# Altium footprint library QUTMS_PCBLibrary.PcbLib: 22 footprints (part 2 of 2)
Each footprint in its own frame and in the unit in brackets; x right, y up, seen from the top. Pads: shape width x height; smd on the part's side, far side on the other; paste and mask are expansions set on the pad; w line width, h text height; cw(c..) or ccw(c..) is an arc to the next point about the centre after c.
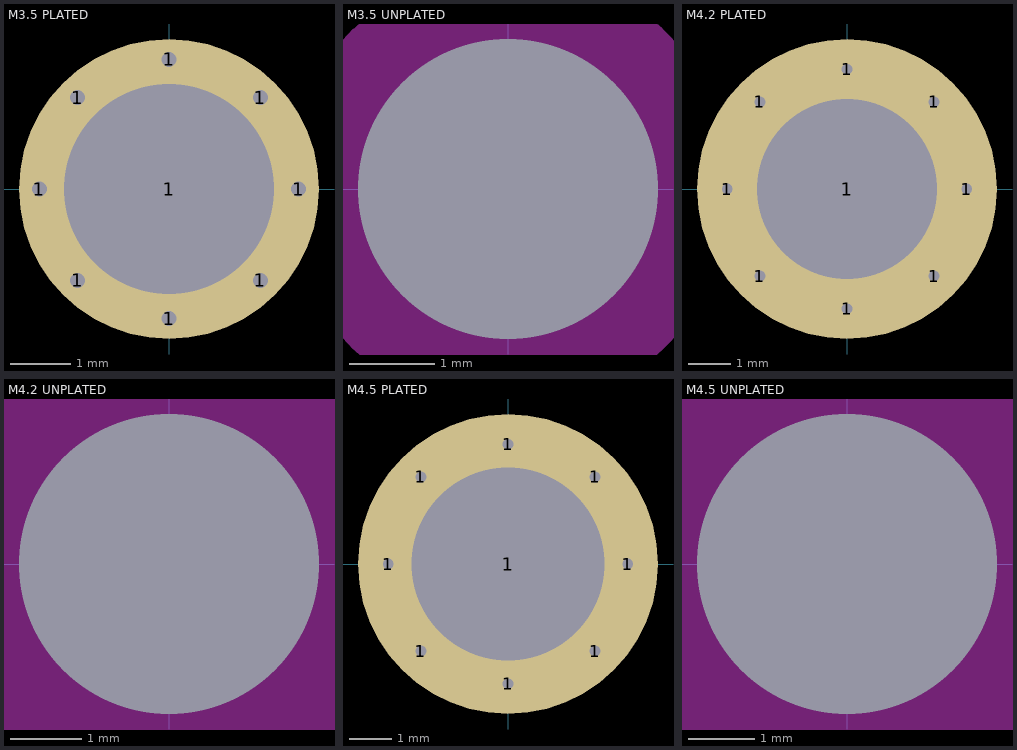
[diagram p1: the footprints below, top view; thin cyan lines are the x and y axes]

## M3.5 PLATED [mil]
pads (9):
  round 20 hole 10: 1(-85,0) 1(-60,-60) 1(-60,60) 1(0,-85) 1(0,85) 1(60,-60) 1(60,60) 1(85,0)
  round 196.85 hole 137.8: 1(0,0)

## M3.5 UNPLATED [mm]
pads (1):
  round 0 hole 3.5 unplated mask+2.6: 1(0,0)
Keep-Out Layer:
  circle w2.667: c0,0 r1.27

## M4.2 PLATED [mil]
pads (9):
  round 20 hole 10: 1(-110,0) 1(-80,-80) 1(-80,80) 1(0,-110) 1(0,110) 1(80,-80) 1(80,80) 1(110,0)
  round 275.59 hole 165.35: 1(0,0)

## M4.2 UNPLATED [mm]
pads (1):
  round 0 hole 4.2 unplated mask+3.6: 1(0,0)
Keep-Out Layer:
  circle w3.81: c0,0 r1.702

## M4.5 PLATED [mil]
pads (9):
  round 20 hole 10: 1(-110,0) 1(-80,-80) 1(-80,80) 1(0,-110) 1(0,110) 1(80,-80) 1(80,80) 1(110,0)
  round 275.59 hole 177.17: 1(0,0)

## M4.5 UNPLATED [mm]
pads (1):
  round 0 hole 4.5 unplated mask+3.6: 1(0,0)
Keep-Out Layer:
  circle w3.81: c0.018,0.024 r1.702